# Altium footprint library Copy of 24V银触点Relay1.PcbLib: 1 footprints
Each footprint in its own frame and in the unit in brackets; x right, y up, seen from the top. Pads: shape width x height; smd on the part's side, far side on the other; paste and mask are expansions set on the pad; w line width, h text height; cw(c..) or ccw(c..) is an arc to the next point about the centre after c.
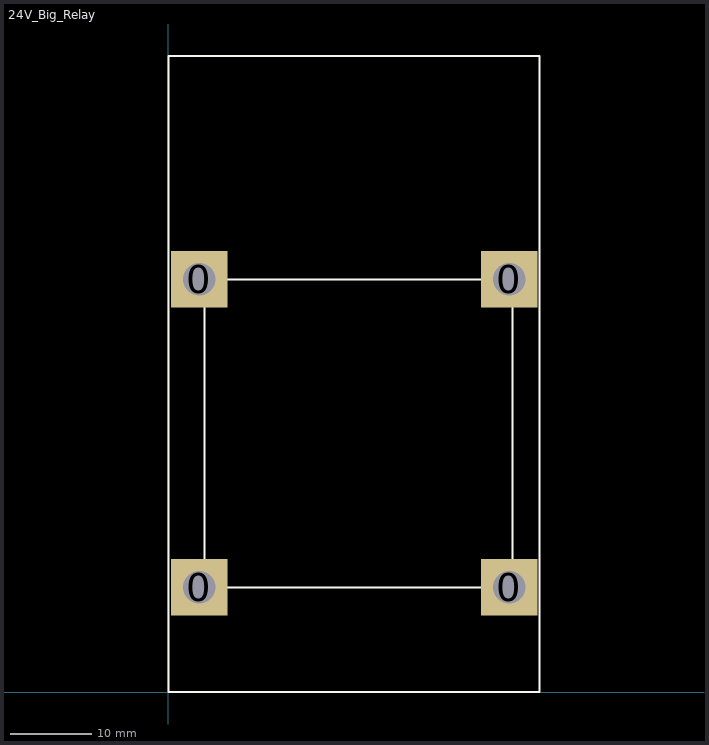
[diagram p0: the footprint, top view; thin cyan lines are the x and y axes]

## 24V_Big_Relay [mm]
pads (4):
  rect 7x7 hole 4: 0(3.81,12.954) 0(3.81,50.927) 0(42.037,12.954) 0(42.037,50.927)
Top Overlay:
  lines w0.254: 0,0 0,78.5 45.8,78.5 45.8,0 0,0 ; 4.445,12.927 4.445,50.927 42.445,50.927 42.445,12.927 4.445,12.927
3D body: height 46, standoff 46, extent -0.127,-0.127 45.927,78.627
3D body: height 46, standoff 0.25, extent -0.002,1.397 45.72,76.943